# EAGLE library part TPS61090 (library quentin)
boost regulator
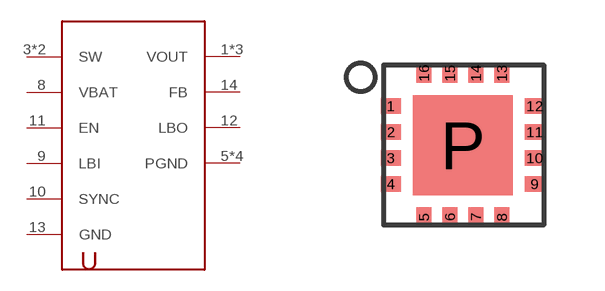
[diagram p9: symbol with the pads of 16QFN; footprint 16QFN]

Designator prefix -

## TPS61090  [16QFN]
1  VOUT
3  SW
4  SW
5  PGND
6  PGND
7  PGND
8  VBAT
9  LBI
10  SYNC
11  EN
12  LBO
13  GND
14  FB
15  VOUT
16  VOUT
P  PGND

## Footprint 16QFN (pad centres in mm)
smd 0.5 x 0.38: 1 -0.825,2.775; 2 -0.825,2.125; 3 -0.825,1.475; 4 -0.825,0.825; 9 2.775,0.825; 10 2.775,1.475; 11 2.775,2.125; 12 2.775,2.775
smd 0.38 x 0.5: 5 0,0; 6 0.65,0; 7 1.3,0; 8 1.95,0; 13 1.95,3.6; 14 1.3,3.6; 15 0.65,3.6; 16 0,3.6
smd 2.5 x 2.5: P 0.975,1.8